# EAGLE library part DS2422 (library 1wire)
Temperature Datalogger with 8KB Datalog Memory This chip combines the core functions of a fully featured datalogger in a single chip. It includes a temperature sensor, realtime clock (RTC), memory, Onewire interface, and SPI interface for connection of an analog-to-digital converter (ADC), as well as control circuitry for a charge pump.The ADC and the charge pump are peripherals that can be added to build application-specific dataloggers. A total of 8192 byte or 4096 word precision readings taken at equidistant intervals ranging from 1s to 273 hrs can be stored automatically. Notes: The datalogger has both a free-run and an operate-until-full mode, which can be selected by software. A 2.8..5V (battery powered) Vdd has to be applied, as all the circuit but the Onewire part of the chip is operated from that supply. This chip is designed to operate together with an MAX1086..1089 A/D converter and a MAX619 chargepump regulator. See the datasheet for details. The TEST_SPLY and TEST_RX pin must be connected to GND, the TEST_CG pin must be left unconnected for normal operation. Author: Orginal device and description from Giovanni Varasano <giovanni.varasano@fastwebnet.it> Improved by Jan Kandziora <jjj@gmx.de>
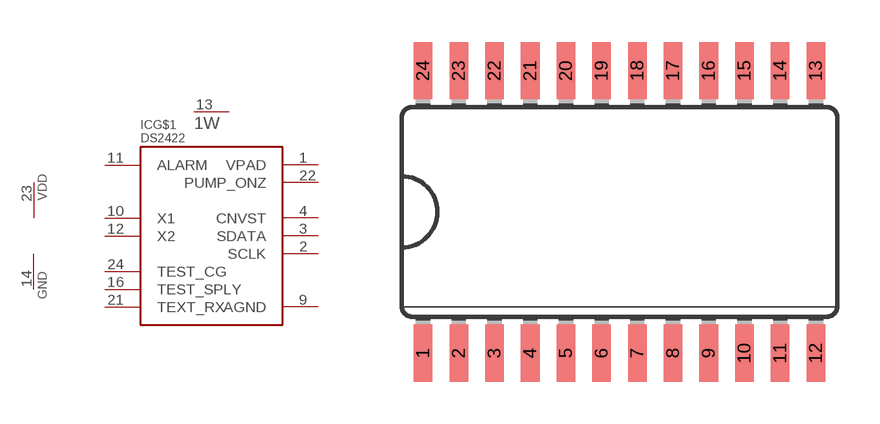
[diagram p7: symbol with the pads of SO24L; footprint SO24L]

Designator prefix IC; gates G$1=DS2422 P=VDD-GND _1W=1W

## DS2422  [SO24L]
1  G$1:VPAD  pwr
2  G$1:SCLK  out
3  G$1:SDATA
4  G$1:CNVST  out
9  G$1:AGND  pwr
10  G$1:X1  pas
11  G$1:ALARM  out
12  G$1:X2  pas
13  _1W:1W  pwr
14  P:GND  pwr
16  G$1:TEST_SPLY  pwr
21  G$1:TEXT_RX  pwr
22  G$1:PUMP_ONZ  out
23  P:VDD  pwr
24  G$1:TEST_CG  pwr

## Footprint SO24L (pad centres in mm)
Small Outline Package
smd 0.66 x 2.032: 1 -6.985,-5.029; 2 -5.715,-5.029; 3 -4.445,-5.029; 4 -3.175,-5.029; 5 -1.905,-5.029; 6 -0.635,-5.029; 7 0.635,-5.029; 8 1.905,-5.029; 9 3.175,-5.029; 10 4.445,-5.029; 11 5.715,-5.029; 12 6.985,-5.029; 13 6.985,5.029; 14 5.715,5.029; 15 4.445,5.029; 16 3.175,5.029; 17 1.905,5.029; 18 0.635,5.029; 19 -0.635,5.029; 20 -1.905,5.029; 21 -3.175,5.029; 22 -4.445,5.029; 23 -5.715,5.029; 24 -6.985,5.029